# EAGLE library part MCA1-85 (library minicircuits)
LTCC RF MIXER wide band Level 7 (LO power +7 dBm 2800 to 8500 MHz) Features: wide bandwidth, 2800 to 8500 MHz low conversion loss, 5.6 dB typ. high L-R isolation, 35 dB typ. IF, DC to 1250 MHz 1 dB compr. typ.: +1 dBm LTCC double balanced mixer low cost low profile, 0.08" maximum Operating temperature -55°C to 100°C maximum Storage Temperature -55°C to 100°C maximum RF Power 50 mW maximum IF current 40 mA Applications: satellite up and down converters line of sight links defense radar defense communication http://www.minicircuits.com/MCA1-85.pdf
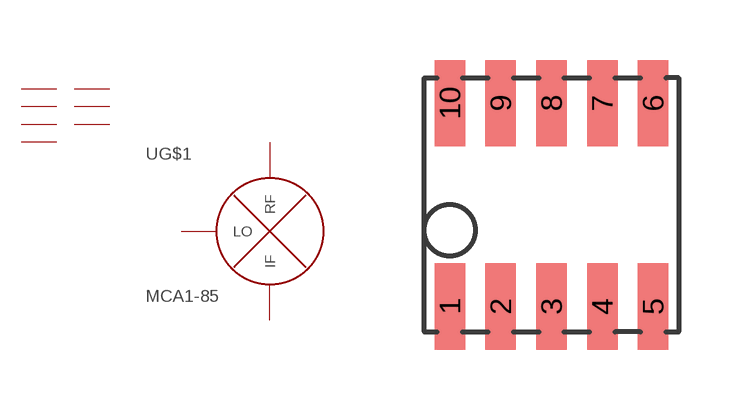
[diagram p20: symbol with the pads of DZ885; footprint DZ885]

Designator prefix -; gates G$1=RF-MIXER G$2=GND G$3=GND G$4=GND G$5=GND G$6=GND G$7=GND G$8=GND

## MCA1-85  [DZ885]
1  G$8:GND  pwr
2  G$7:GND  pwr
3  G$1:IF
4  G$6:GND  pwr
5  G$1:RF
6  G$2:GND  pwr
7  G$3:GND  pwr
8  G$4:GND  pwr
9  G$5:GND  pwr
10  G$1:LO

## Footprint DZ885 (pad centres in mm)
DZ885 http://www.minicircuits.com/cgi-bin/inquery.cgi?querystring=dz885&searchtype=case&x=20&y=14
smd 0.762 x 2.159: 1 0,1.27; 2 1.27,1.27; 3 2.54,1.27; 4 3.81,1.27; 5 5.08,1.27; 6 5.08,6.35; 7 3.81,6.35; 8 2.54,6.35; 9 1.27,6.35; 10 0,6.35